# EAGLE library part SSW-132-02-S-S (library con-samtec)
THROUGH-HOLE .025" SQ POST SOCKET Source: Samtec SSW.pdf
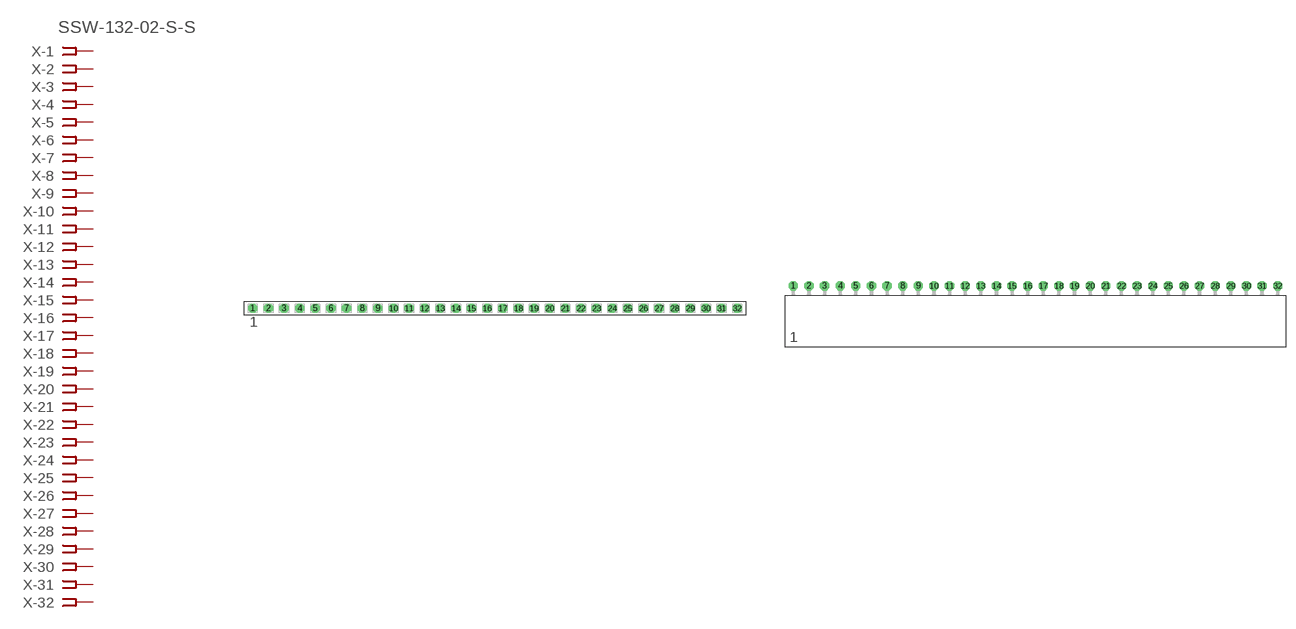
[diagram p72: symbol with the pads of SSW-132-02-S-S; footprints SSW-132-02-S-S, SSW-132-02-S-S-RA]

Designator prefix X; gates -1=FPINV -2=FPIN -3=FPIN -4=FPIN -5=FPIN -6=FPIN -7=FPIN -8=FPIN -9=FPIN -10=FPIN -11=FPIN -12=FPIN -13=FPIN -14=FPIN -15=FPIN -16=FPIN -17=FPIN -18=FPIN -19=FPIN -20=FPIN -21=FPIN -22=FPIN -23=FPIN -24=FPIN -25=FPIN -26=FPIN -27=FPIN -28=FPIN -29=FPIN -30=FPIN -31=FPIN -32=FPIN

## SSW-132-02-S-S  [SSW-132-02-S-S]
1  -1:1  pas
2  -2:1  pas
3  -3:1  pas
4  -4:1  pas
5  -5:1  pas
6  -6:1  pas
7  -7:1  pas
8  -8:1  pas
9  -9:1  pas
10  -10:1  pas
11  -11:1  pas
12  -12:1  pas
13  -13:1  pas
14  -14:1  pas
15  -15:1  pas
16  -16:1  pas
17  -17:1  pas
18  -18:1  pas
19  -19:1  pas
20  -20:1  pas
21  -21:1  pas
22  -22:1  pas
23  -23:1  pas
24  -24:1  pas
25  -25:1  pas
26  -26:1  pas
27  -27:1  pas
28  -28:1  pas
29  -29:1  pas
30  -30:1  pas
31  -31:1  pas
32  -32:1  pas

## SSW-132-02-S-S-RA  [SSW-132-02-S-S-RA]
Pads as for SSW-132-02-S-S

## Footprint SSW-132-02-S-S (pad centres in mm)
THROUGH-HOLE .025" SQ POST SOCKET Source: Samtec SSW.pdf
drill 1 pad 1.5 octagon: 1 -39.37,0; 2 -36.83,0; 3 -34.29,0; 4 -31.75,0; 5 -29.21,0; 6 -26.67,0; 7 -24.13,0; 8 -21.59,0; 9 -19.05,0; 10 -16.51,0; 11 -13.97,0; 12 -11.43,0; 13 -8.89,0; 14 -6.35,0; 15 -3.81,0; 16 -1.27,0; 17 1.27,0; 18 3.81,0; 19 6.35,0; 20 8.89,0; 21 11.43,0; 22 13.97,0; 23 16.51,0; 24 19.05,0; 25 21.59,0; 26 24.13,0; 27 26.67,0; 28 29.21,0; 29 31.75,0; 30 34.29,0; 31 36.83,0; 32 39.37,0

## Footprint SSW-132-02-S-S-RA (pad centres in mm)
THROUGH-HOLE .025" SQ POST SOCKET Source: Samtec SSW.pdf
drill 1 pad 1.5 octagon: 1 -39.37,1.524; 2 -36.83,1.524; 3 -34.29,1.524; 4 -31.75,1.524; 5 -29.21,1.524; 6 -26.67,1.524; 7 -24.13,1.524; 8 -21.59,1.524; 9 -19.05,1.524; 10 -16.51,1.524; 11 -13.97,1.524; 12 -11.43,1.524; 13 -8.89,1.524; 14 -6.35,1.524; 15 -3.81,1.524; 16 -1.27,1.524; 17 1.27,1.524; 18 3.81,1.524; 19 6.35,1.524; 20 8.89,1.524; 21 11.43,1.524; 22 13.97,1.524; 23 16.51,1.524; 24 19.05,1.524; 25 21.59,1.524; 26 24.13,1.524; 27 26.67,1.524; 28 29.21,1.524; 29 31.75,1.524; 30 34.29,1.524; 31 36.83,1.524; 32 39.37,1.524